# Altium schematic symbol library 08055A200KAT2A.SchLib: 1 symbol
Pins are listed as number, name and electrical type; pins without a type are passive.

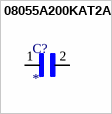
[diagram p0: symbol 08055A200KAT2A]

## 08055A200KAT2A
designator C?
20PF 50V 10% 080; MP: 08055A200KAT2A; Package: None; Price: None; Value: *; Availability: Unavailable
footprint CAPC2012X94N
pins: 1, 2